# EAGLE library part ZXGD3003E6 (library custom)
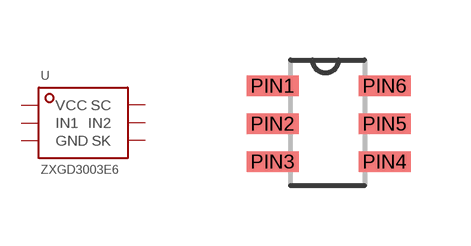
[diagram p13: symbol with the pads of SOT23-6; footprint SOT23-6]

Designator prefix -

## ZXGD3003E6  [SOT23-6]
PIN1  VCC
PIN2  IN1
PIN3  GND
PIN4  SK
PIN5  IN2
PIN6  SC

## Footprint SOT23-6 (pad centres in mm)
smd 1.3 x 0.508: PIN1 -0.2,0; PIN2 -0.2,-0.95; PIN3 -0.2,-1.9; PIN4 2.6,-1.9; PIN5 2.6,-0.95; PIN6 2.6,0